# EAGLE library part MP2315 (library ds_ic_vreg)
Description The MP2315 is a high frequency synchronous rectified step-down switch mode converter with built in internal power MOSFETs. It offers a very compact solution to achieve 3A continuous output current over a wide input supply range with excellent load and line regulation. The MP2315 has synchronous mode operation for higher efficiency over output current load range. Current mode operation provides fast transient response and eases loop stabilization. Full protection features include OCP and thermal shut down.
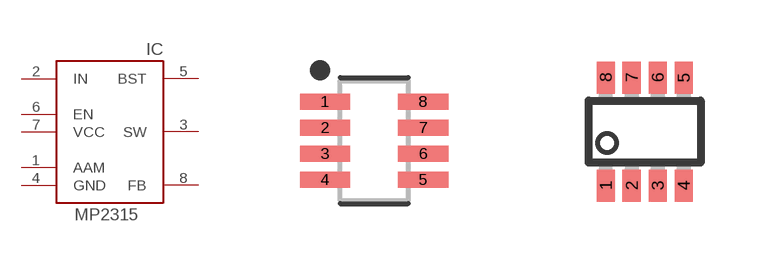
[diagram p6: symbol with the pads of SOT65P280X110-8N; footprints SOT65P280X110-8N, SOT23-8]

Designator prefix IC

## MP2315TSOT23-8 (DATASHEET: https://www.monolithicpower.com/en/documentview/productdocument/index/version/2/document_type/Datasheet/lang/EN/sku/MP2315S?srsltid=AfmBOoqbTpEIx6KSoiWl4ZUQnKkVQGj573Ur79inB-ZmXjzR-CZxOYOr; DESCRIPTION: Step-down type Adjustable 800mV~22.8V 3A 4.5V~24V TSOT-23-8 DC-DC Converters ROHS; HQ_PART: IC0339027; LCSC_PART: C45889; MANUFACTURER: MPS; MPN: MP2315GJ-Z; ROHS: YES; VALUE: MP2315GJ-Z)  [SOT65P280X110-8N]
1  AAM
2  IN
3  SW
4  GND
5  BST
6  EN
7  VCC
8  FB

## MP2315  [SOT23-8]
Pads as for SOT65P280X110-8N

## Footprint SOT65P280X110-8N (pad centres in mm)
8-SOT23, 0.65 mm pitch, 2.80 mm span, 2.90 X 1.60 X 1.10 mm body 8-pin SOT23 package with 0.65 mm pitch, 2.80 mm span with body size 2.90 X 1.60 X 1.10 mm
smd 1.259 x 0.4: 1 -1.228,0.975; 2 -1.228,0.325; 3 -1.228,-0.325; 4 -1.228,-0.975; 5 1.228,-0.975; 6 1.228,-0.325; 7 1.228,0.325; 8 1.228,0.975

## Footprint SOT23-8 (pad centres in mm)
smd 0.45 x 0.8: 1 -0.975,-1.35; 2 -0.325,-1.35; 3 0.325,-1.35; 4 0.975,-1.35; 5 0.975,1.35; 6 0.325,1.35; 7 -0.325,1.35; 8 -0.975,1.35